# Altium schematic symbol library Timer.SchLib: 66 symbols
Pins are listed as number, name and electrical type; pins without a type are passive.

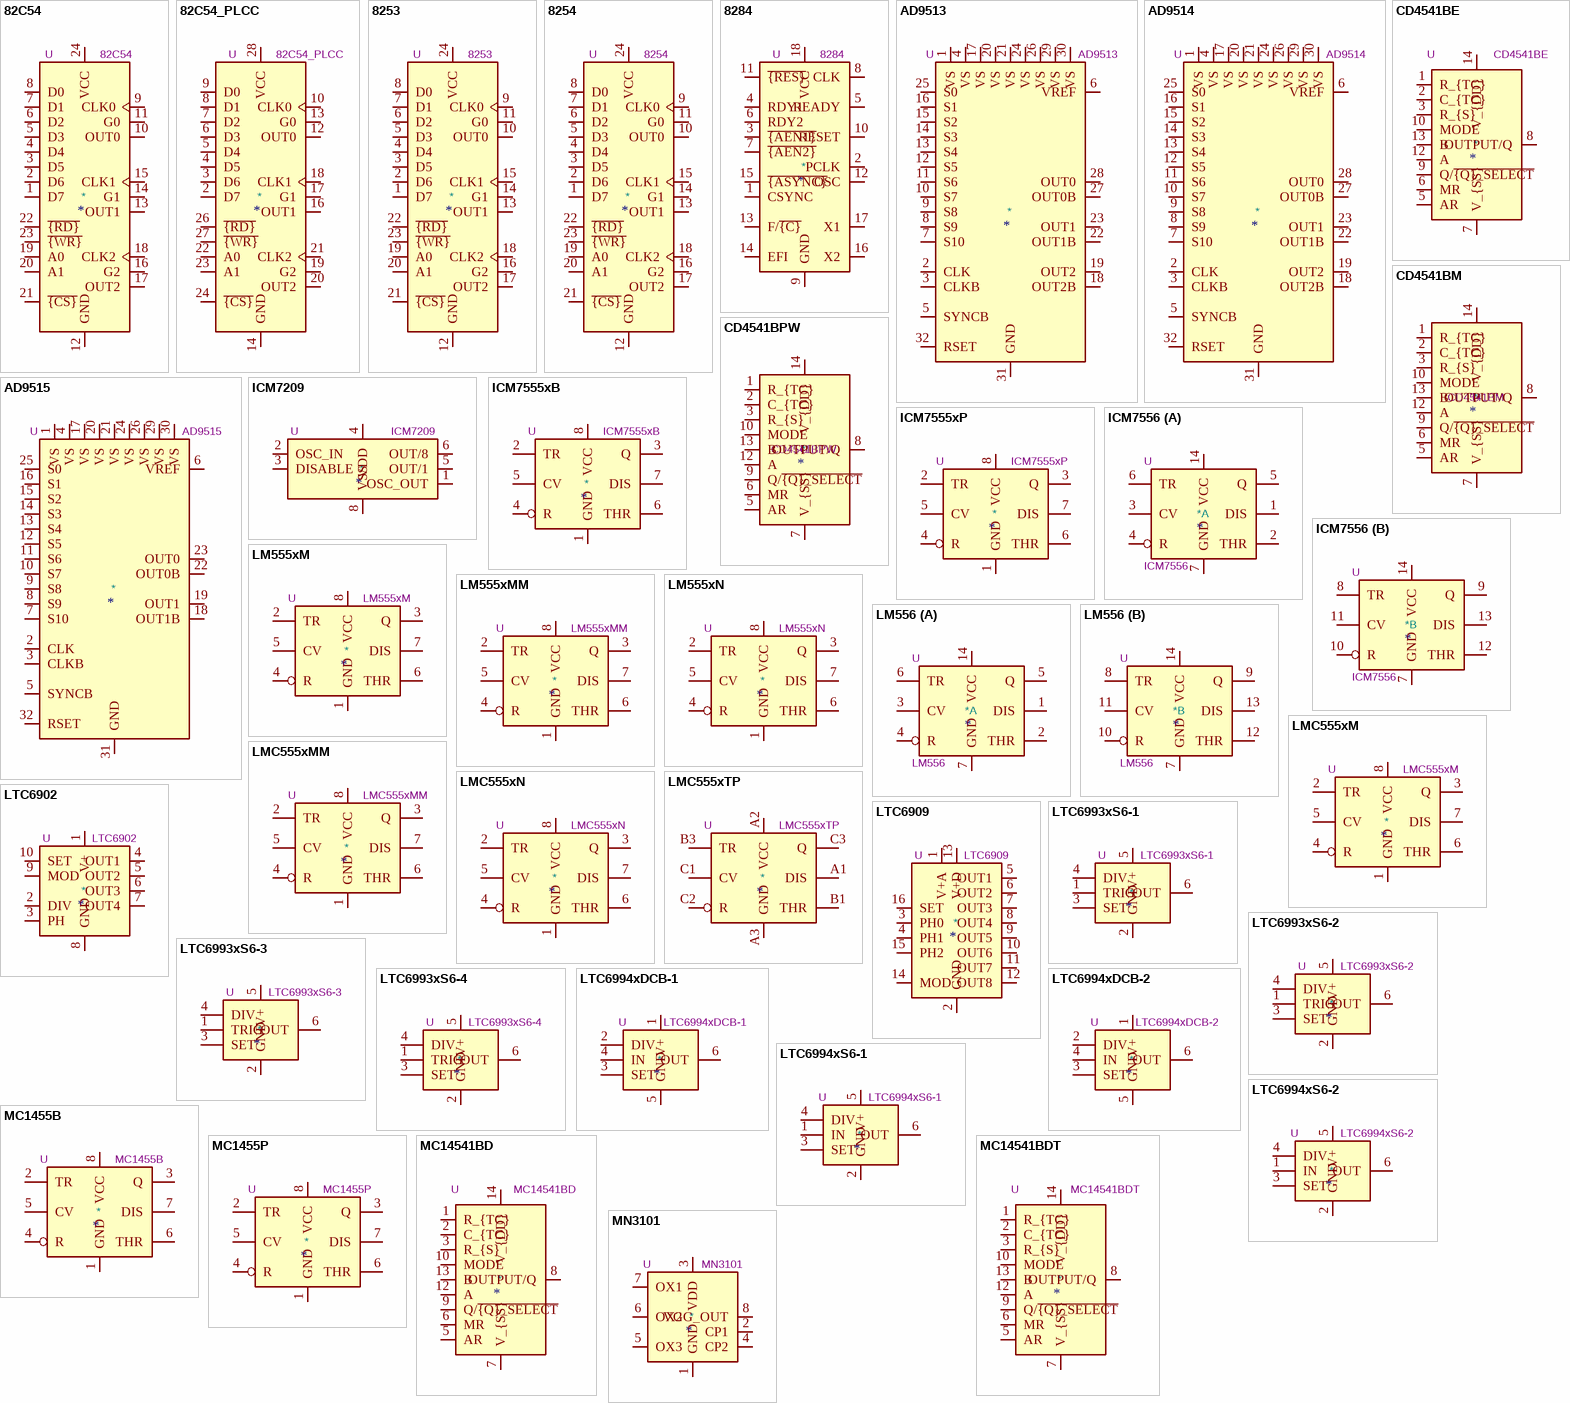
[diagram p0: symbols 82C54 to MN3101]

## 82C54
designator *  value 82C54  Reference: U
ki_keywords: Timer Counter; ki_description: CHMOS Programmable Interval Timer, PDIP-24; ki_fp_filters: DIP*W15.24mm*; Footprint: Package_DIP:DIP-24_W15.24mm; Datasheet: http://download.intel.com/design/archives/periphrl/docs/23124406.pdf
pins: 1 D7, 2 D6, 3 D5, 4 D4, 5 D3, 6 D2, 7 D1, 8 D0, 9 CLK0, 10 OUT0, 11 G0, 12 GND, 13 OUT1, 14 G1, 15 CLK1, 16 G2, 17 OUT2, 18 CLK2, 19 A0, 20 A1, 21 ~{{CS}}, 22 ~{{RD}}, 23 ~{{WR}}, 24 VCC

## 82C54_PLCC
designator *  value 82C54_PLCC  Reference: U
ki_keywords: Timer Counter; ki_description: CHMOS Programmable Interval Timer, PLCC-28; ki_fp_filters: *PLCC?28*; Footprint: Package_LCC:PLCC-28; Datasheet: http://download.intel.com/design/archives/periphrl/docs/23124406.pdf
pins: 1 NC hidden, 2 D7, 3 D6, 4 D5, 5 D4, 6 D3, 7 D2, 8 D1, 9 D0, 10 CLK0, 11 NC hidden, 12 OUT0, 13 G0, 14 GND, 15 NC hidden, 16 OUT1, 17 G1, 18 CLK1, 19 G2, 20 OUT2, 21 CLK2, 22 A0, 23 A1, 24 ~{{CS}}, 25 NC hidden, 26 ~{{RD}}, 27 ~{{WR}}, 28 VCC

## 8253
designator *  value 8253  Reference: U
ki_keywords: Timer Counter; ki_description: Programmable Interval Timer, PDIP-24; ki_fp_filters: DIP*W15.24mm*; Footprint: Package_DIP:DIP-24_W15.24mm; Datasheet: http://www.cpcwiki.eu/imgs/e/e3/8253.pdf
pins: 1 D7, 2 D6, 3 D5, 4 D4, 5 D3, 6 D2, 7 D1, 8 D0, 9 CLK0, 10 OUT0, 11 G0, 12 GND, 13 OUT1, 14 G1, 15 CLK1, 16 G2, 17 OUT2, 18 CLK2, 19 A0, 20 A1, 21 ~{{CS}}, 22 ~{{RD}}, 23 ~{{WR}}, 24 VCC

## 8254
designator *  value 8254  Reference: U
ki_keywords: Timer Counter; ki_description: Programmable Interval Timer, PDIP-24; ki_fp_filters: DIP*W15.24mm*; Footprint: Package_DIP:DIP-24_W15.24mm; Datasheet: http://www.scs.stanford.edu/10wi-cs140/pintos/specs/8254.pdf
pins: 1 D7, 2 D6, 3 D5, 4 D4, 5 D3, 6 D2, 7 D1, 8 D0, 9 CLK0, 10 OUT0, 11 G0, 12 GND, 13 OUT1, 14 G1, 15 CLK1, 16 G2, 17 OUT2, 18 CLK2, 19 A0, 20 A1, 21 ~{{CS}}, 22 ~{{RD}}, 23 ~{{WR}}, 24 VCC

## 8284
designator *  value 8284  Reference: U
ki_keywords: Clock Generator; ki_description: Clock Generator and Driver for i8086/88 Microcontrollers, PDIP-18; ki_fp_filters: DIP*W7.62mm*; Footprint: Package_DIP:DIP-18_W7.62mm; Datasheet: http://www.cpu-galaxy.at/cpu/ram%20rom%20eprom/other_intel_chips/other_intel-Dateien/D8284A_Datasheet.pdf
pins: 1 CSYNC, 2 PCLK, 3 ~{{AEN1}}, 4 RDY1, 5 READY, 6 RDY2, 7 ~{{AEN2}}, 8 CLK, 9 GND, 10 RESET, 11 ~{{RES}}, 12 OSC, 13 F/~{{C}}, 14 EFI, 15 ~{{ASYNC}}, 16 X2, 17 X1, 18 VCC

## AD9513
designator *  value AD9513  Reference: U
ki_keywords: clock distribution LVDS CMOS; ki_description: 800 MHz, 3 Outputs, Clock Distribution IC, Divider, Delay Adjust, LFCSP-32; ki_fp_filters: LFCSP*1EP*5x5mm*P0.5mm*; Footprint: Package_CSP:LFCSP-32-1EP_5x5mm_P0.5mm_EP3.1x3.1mm; Datasheet: https://www.analog.com/media/en/technical-documentation/data-sheets/AD9513.pdf
pins: 1 VS, 2 CLK, 3 CLKB, 4 VS, 5 SYNCB, 6 VREF, 7 S10, 8 S9, 9 S8, 10 S7, 11 S6, 12 S5, 13 S4, 14 S3, 15 S2, 16 S1, 17 VS, 18 OUT2B, 19 OUT2, 20 VS, 21 VS, 22 OUT1B, 23 OUT1, 24 VS, 25 S0, 26 VS, 27 OUT0B, 28 OUT0, 29 VS, 30 VS, 31 GND, 32 RSET, 33 GND hidden

## AD9514
designator *  value AD9514  Reference: U
ki_keywords: clock distribution LVPECL LVDS CMOS; ki_description: 1.6 GHz, 3 Outputs, Clock Distribution IC, Divider, Delay Adjust, LFCSP-32; ki_fp_filters: LFCSP*1EP*5x5mm*P0.5mm*; Footprint: Package_CSP:LFCSP-32-1EP_5x5mm_P0.5mm_EP3.1x3.1mm; Datasheet: https://www.analog.com/media/en/technical-documentation/data-sheets/AD9514.pdf
pins: 1 VS, 2 CLK, 3 CLKB, 4 VS, 5 SYNCB, 6 VREF, 7 S10, 8 S9, 9 S8, 10 S7, 11 S6, 12 S5, 13 S4, 14 S3, 15 S2, 16 S1, 17 VS, 18 OUT2B, 19 OUT2, 20 VS, 21 VS, 22 OUT1B, 23 OUT1, 24 VS, 25 S0, 26 VS, 27 OUT0B, 28 OUT0, 29 VS, 30 VS, 31 GND, 32 RSET, 33 GND hidden

## AD9515
designator *  value AD9515  Reference: U
ki_keywords: clock distribution LVPECL LVDS CMOS; ki_description: 1.6 GHz, 2 Outputs, Clock Distribution IC, Divider, Delay Adjust, LFCSP-32; ki_fp_filters: LFCSP*1EP*5x5mm*P0.5mm*; Footprint: Package_CSP:LFCSP-32-1EP_5x5mm_P0.5mm_EP3.1x3.1mm; Datasheet: https://www.analog.com/media/en/technical-documentation/data-sheets/AD9515.pdf
pins: 1 VS, 2 CLK, 3 CLKB, 4 VS, 5 SYNCB, 6 VREF, 7 S10, 8 S9, 9 S8, 10 S7, 11 S6, 12 S5, 13 S4, 14 S3, 15 S2, 16 S1, 17 VS, 18 OUT1B, 19 OUT1, 20 VS, 21 VS, 22 OUT0B, 23 OUT0, 24 VS, 25 S0, 26 VS, 27 NC hidden, 28 NC hidden, 29 VS, 30 VS, 31 GND, 32 RSET, 33 GND hidden

## CD4541BE
designator *  value CD4541BE  Reference: U
ki_keywords: cmos; ki_description: 20V, Programmable Timer, PDIP-14; ki_fp_filters: DIP*W7.62mm*; Footprint: Package_DIP:DIP-14_W7.62mm; Datasheet: https://www.ti.com/lit/ds/symlink/cd4541b.pdf
pins: 1 R_{TC}, 2 C_{TC}, 3 R_{S}, 4 NC hidden, 5 AR, 6 MR, 7 V_{SS}, 8 OUTPUT/Q, 9 Q/~{{Q}_SELECT}, 10 MODE, 11 NC hidden, 12 A, 13 B, 14 V_{DD}

## CD4541BM
designator *  value CD4541BM  Reference: U
ki_keywords: cmos; ki_description: 20V, Programmable Timer, SOIC-14; ki_fp_filters: SOIC*3.9x8.7mm*P1.27mm*; Footprint: Package_SO:SOIC-14_3.9x8.7mm_P1.27mm; Datasheet: https://www.ti.com/lit/ds/symlink/cd4541b.pdf
pins: 1 R_{TC}, 2 C_{TC}, 3 R_{S}, 4 NC hidden, 5 AR, 6 MR, 7 V_{SS}, 8 OUTPUT/Q, 9 Q/~{{Q}_SELECT}, 10 MODE, 11 NC hidden, 12 A, 13 B, 14 V_{DD}

## CD4541BPW
designator *  value CD4541BPW  Reference: U
ki_keywords: cmos; ki_description: 20V, Programmable Timer, TSSOP-14; ki_fp_filters: TSSOP*4.4x5mm*P0.65mm*; Footprint: Package_SO:TSSOP-14_4.4x5mm_P0.65mm; Datasheet: https://www.ti.com/lit/ds/symlink/cd4541b.pdf
pins: 1 R_{TC}, 2 C_{TC}, 3 R_{S}, 4 NC hidden, 5 AR, 6 MR, 7 V_{SS}, 8 OUTPUT/Q, 9 Q/~{{Q}_SELECT}, 10 MODE, 11 NC hidden, 12 A, 13 B, 14 V_{DD}

## ICM7209
designator *  value ICM7209  Reference: U
ki_keywords: Timebase generator; ki_description: Timebase generator, DIP-8; ki_fp_filters: DIP*W7.62mm*; Footprint: Package_DIP:DIP-8_W7.62mm; Datasheet: http://pdf.datasheetcatalog.com/datasheets/320/500974_DS.pdf
pins: 1 OSC_OUT, 2 OSC_IN, 3 DISABLE, 4 VDD, 5 OUT/1, 6 OUT/8, 8 VSS

## ICM7555xB
designator *  value ICM7555xB  Reference: U
ki_keywords: single timer 555; ki_description: CMOS General Purpose Timer, 555 compatible, SOIC-8; ki_fp_filters: SOIC*3.9x4.9mm*P1.27mm*; Footprint: Package_SO:SOIC-8_3.9x4.9mm_P1.27mm; Datasheet: http://www.intersil.com/content/dam/Intersil/documents/icm7/icm7555-56.pdf
pins: 1 GND, 2 TR, 3 Q, 4 R, 5 CV, 6 THR, 7 DIS, 8 VCC

## ICM7555xP
designator *  value ICM7555xP  Reference: U
ki_keywords: single timer 555; ki_description: CMOS General Purpose Timer, 555 compatible, PDIP-8; ki_fp_filters: DIP*W7.62mm*; Footprint: Package_DIP:DIP-8_W7.62mm; Datasheet: http://www.intersil.com/content/dam/Intersil/documents/icm7/icm7555-56.pdf
pins: 1 GND, 2 TR, 3 Q, 4 R, 5 CV, 6 THR, 7 DIS, 8 VCC

## ICM7556
designator *  value ICM7556  Reference: U
ki_keywords: dual timer 556; ki_description: Dual CMOS General Purpose Timer, DIP-14/SOIC-14; ki_fp_filters: DIP*W7.62mm* TSSOP*5.3x6.2mm*P0.65mm* SOIC*3.9x8.7mm*P1.27mm*; Datasheet: http://www.intersil.com/content/dam/Intersil/documents/icm7/icm7555-56.pdf
part A pins: 1 DIS, 2 THR, 3 CV, 4 R, 5 Q, 6 TR, 7 GND, 14 VCC
part B pins: 7 GND, 8 TR, 9 Q, 10 R, 11 CV, 12 THR, 13 DIS, 14 VCC

## LM555xM
designator *  value LM555xM  Reference: U
ki_keywords: single timer 555; ki_description: Timer, 555 compatible, SOIC-8; ki_fp_filters: SOIC*3.9x4.9mm*P1.27mm*; Footprint: Package_SO:SOIC-8_3.9x4.9mm_P1.27mm; Datasheet: http://www.ti.com/lit/ds/symlink/lm555.pdf
pins: 1 GND, 2 TR, 3 Q, 4 R, 5 CV, 6 THR, 7 DIS, 8 VCC

## LM555xMM
designator *  value LM555xMM  Reference: U
ki_keywords: single timer 555; ki_description: Precision Timers, 555 compatible, VSSOP-8; ki_fp_filters: *VSSOP*3.0x3.0mm*P0.65mm*; Footprint: Package_SO:VSSOP-8_3.0x3.0mm_P0.65mm; Datasheet: http://www.ti.com/lit/ds/symlink/lm555.pdf
pins: 1 GND, 2 TR, 3 Q, 4 R, 5 CV, 6 THR, 7 DIS, 8 VCC

## LM555xN
designator *  value LM555xN  Reference: U
ki_keywords: single timer 555; ki_description: Timer, 555 compatible, PDIP-8; ki_fp_filters: DIP*W7.62mm*; Footprint: Package_DIP:DIP-8_W7.62mm; Datasheet: http://www.ti.com/lit/ds/symlink/lm555.pdf
pins: 1 GND, 2 TR, 3 Q, 4 R, 5 CV, 6 THR, 7 DIS, 8 VCC

## LM556
designator *  value LM556  Reference: U
ki_keywords: dual timer; ki_description: Dual Timer, DIP-14/SOIC-14; ki_fp_filters: DIP*W7.62mm* TSSOP*5.3x6.2mm*P0.65mm* SOIC*3.9x8.7mm*P1.27mm*; Datasheet: http://www.ti.com/lit/ds/symlink/lm556.pdf
part A pins: 1 DIS, 2 THR, 3 CV, 4 R, 5 Q, 6 TR, 7 GND, 14 VCC
part B pins: 7 GND, 8 TR, 9 Q, 10 R, 11 CV, 12 THR, 13 DIS, 14 VCC

## LMC555xM
designator *  value LMC555xM  Reference: U
ki_keywords: single timer 555; ki_description: CMOS Timer, 555 compatible, SOIC-8; ki_fp_filters: SOIC*3.9x4.9mm*P1.27mm*; Footprint: Package_SO:SOIC-8_3.9x4.9mm_P1.27mm; Datasheet: http://www.ti.com/lit/ds/symlink/lmc555.pdf
pins: 1 GND, 2 TR, 3 Q, 4 R, 5 CV, 6 THR, 7 DIS, 8 VCC

## LMC555xMM
designator *  value LMC555xMM  Reference: U
ki_keywords: single timer 555; ki_description: CMOS Timer, 555 compatible, VSSOP-8; ki_fp_filters: *VSSOP*3.0x3.0mm*P0.65mm*; Footprint: Package_SO:VSSOP-8_3.0x3.0mm_P0.65mm; Datasheet: http://www.ti.com/lit/ds/symlink/lmc555.pdf
pins: 1 GND, 2 TR, 3 Q, 4 R, 5 CV, 6 THR, 7 DIS, 8 VCC

## LMC555xN
designator *  value LMC555xN  Reference: U
ki_keywords: single timer 555; ki_description: CMOS Timer, 555 compatible, PDIP-8; ki_fp_filters: DIP*W7.62mm*; Footprint: Package_DIP:DIP-8_W7.62mm; Datasheet: http://www.ti.com/lit/ds/symlink/lmc555.pdf
pins: 1 GND, 2 TR, 3 Q, 4 R, 5 CV, 6 THR, 7 DIS, 8 VCC

## LMC555xTP
designator *  value LMC555xTP  Reference: U
ki_keywords: single timer 555; ki_description: CMOS Timer, DSBGA-8; ki_fp_filters: Texas*DSBGA*P0.5mm*; Footprint: Package_BGA:Texas_DSBGA-8_1.43x1.41mm_Layout3x3_P0.5mm; Datasheet: http://www.ti.com/lit/ds/symlink/lmc555.pdf
pins: A1 DIS, A2 VCC, A3 GND, B1 THR, B3 TR, C1 CV, C2 R, C3 Q

## LTC6902
designator *  value LTC6902  Reference: U
ki_keywords: clock generator dual triple quad signal; ki_description: Multiphase oscillator, spread spectrum frequency modulation, MSOP-10; ki_fp_filters: MSOP*3x3mm*P0.5mm*; Footprint: Package_SO:MSOP-10_3x3mm_P0.5mm; Datasheet: https://www.analog.com/media/en/technical-documentation/data-sheets/6902f.pdf
pins: 1 V+, 2 DIV, 3 PH, 4 OUT1, 5 OUT2, 6 OUT3, 7 OUT4, 8 GND, 9 MOD, 10 SET

## LTC6909
designator *  value LTC6909  Reference: U
ki_keywords: clock generator signal; ki_description: Multiphase oscillator, spread spectrum frequency modulation, MSOP-16; ki_fp_filters: MSOP*3x4mm*P0.5mm*; Footprint: Package_SO:MSOP-16_3x4mm_P0.5mm; Datasheet: https://www.analog.com/media/en/technical-documentation/data-sheets/6909fa.pdf
pins: 1 V+A, 2 GND, 3 PH0, 4 PH1, 5 OUT1, 6 OUT2, 7 OUT3, 8 OUT4, 9 OUT5, 10 OUT6, 11 OUT7, 12 OUT8, 13 V+D, 14 MOD, 15 PH2, 16 SET

## LTC6993xS6-1
designator *  value LTC6993xS6-1  Reference: U
ki_keywords: Timer TimerBlox monostable pulse; ki_description: TimerBlox Monostable Pulse Generator (One Shot), Rising-edge input, non-retriggerable, TSOT-23-6; ki_fp_filters: TSOT*23*; Footprint: Package_TO_SOT_SMD:TSOT-23-6; Datasheet: https://www.analog.com/media/en/technical-documentation/data-sheets/69931234fc.pdf
pins: 1 TRIG, 2 GND, 3 SET, 4 DIV, 5 V+, 6 OUT

## LTC6993xS6-2
designator *  value LTC6993xS6-2  Reference: U
ki_keywords: Timer TimerBlox monostable pulse; ki_description: TimerBlox Monostable Pulse Generator (One Shot), Rising-edge input, retriggerable, TSOT-23-6; ki_fp_filters: TSOT*23*; Footprint: Package_TO_SOT_SMD:TSOT-23-6; Datasheet: https://www.analog.com/media/en/technical-documentation/data-sheets/69931234fc.pdf
pins: 1 TRIG, 2 GND, 3 SET, 4 DIV, 5 V+, 6 OUT

## LTC6993xS6-3
designator *  value LTC6993xS6-3  Reference: U
ki_keywords: Timer TimerBlox monostable pulse; ki_description: TimerBlox Monostable Pulse Generator (One Shot), Falling-edge input, non-retriggerable, TSOT-23-6; ki_fp_filters: TSOT*23*; Footprint: Package_TO_SOT_SMD:TSOT-23-6; Datasheet: https://www.analog.com/media/en/technical-documentation/data-sheets/69931234fc.pdf
pins: 1 TRIG, 2 GND, 3 SET, 4 DIV, 5 V+, 6 OUT

## LTC6993xS6-4
designator *  value LTC6993xS6-4  Reference: U
ki_keywords: Timer TimerBlox monostable pulse; ki_description: TimerBlox Monostable Pulse Generator (One Shot), Falling-edge input, retriggerable, TSOT-23-6; ki_fp_filters: TSOT*23*; Footprint: Package_TO_SOT_SMD:TSOT-23-6; Datasheet: https://www.analog.com/media/en/technical-documentation/data-sheets/69931234fc.pdf
pins: 1 TRIG, 2 GND, 3 SET, 4 DIV, 5 V+, 6 OUT

## LTC6994xDCB-1
designator *  value LTC6994xDCB-1  Reference: U
ki_keywords: TimerBlox delay block noise discriminator; ki_description: TimerBlox Delay Block, Programmable, Noise Discriminator, Rising or Falling Edge, DFN-6; ki_fp_filters: DFN*1EP*3x2mm*P0.5mm*; Footprint: Package_DFN_QFN:DFN-6-1EP_3x2mm_P0.5mm_EP1.65x1.35mm; Datasheet: https://www.analog.com/media/en/technical-documentation/data-sheets/699412fb.pdf
pins: 1 V+, 2 DIV, 3 SET, 4 IN, 5 GND, 6 OUT

## LTC6994xDCB-2
designator *  value LTC6994xDCB-2  Reference: U
ki_keywords: TimerBlox debouncer noise discriminator; ki_description: TimerBlox Debouncer, Programmable, Noise Discriminator, Rising and Falling Edges, DFN-6; ki_fp_filters: DFN*1EP*3x2mm*P0.5mm*; Footprint: Package_DFN_QFN:DFN-6-1EP_3x2mm_P0.5mm_EP1.65x1.35mm; Datasheet: https://www.analog.com/media/en/technical-documentation/data-sheets/699412fb.pdf
pins: 1 V+, 2 DIV, 3 SET, 4 IN, 5 GND, 6 OUT

## LTC6994xS6-1
designator *  value LTC6994xS6-1  Reference: U
ki_keywords: TimerBlox delay block noise discriminator; ki_description: TimerBlox Delay Block, Programmable, Noise Discriminator, Rising or Falling Edge, TSOT-23-6; ki_fp_filters: TSOT*23*; Footprint: Package_TO_SOT_SMD:TSOT-23-6; Datasheet: https://www.analog.com/media/en/technical-documentation/data-sheets/699412fb.pdf
pins: 1 IN, 2 GND, 3 SET, 4 DIV, 5 V+, 6 OUT

## LTC6994xS6-2
designator *  value LTC6994xS6-2  Reference: U
ki_keywords: TimerBlox debouncer noise discriminator; ki_description: TimerBlox Debouncer, Programmable, Noise Discriminator, Rising and Falling Edges, TSOT-23-6; ki_fp_filters: TSOT*23*; Footprint: Package_TO_SOT_SMD:TSOT-23-6; Datasheet: https://www.analog.com/media/en/technical-documentation/data-sheets/699412fb.pdf
pins: 1 IN, 2 GND, 3 SET, 4 DIV, 5 V+, 6 OUT

## MC1455B
designator *  value MC1455B  Reference: U
ki_keywords: single timer 555; ki_description: Timer, 555 compatible, SOIC-8; ki_fp_filters: SOIC*3.9x4.9mm*P1.27mm*; Footprint: Package_SO:SOIC-8_3.9x4.9mm_P1.27mm; Datasheet: https://www.onsemi.com/pub/Collateral/MC1455-D.PDF
pins: 1 GND, 2 TR, 3 Q, 4 R, 5 CV, 6 THR, 7 DIS, 8 VCC

## MC1455P
designator *  value MC1455P  Reference: U
ki_keywords: single timer 555; ki_description: Timer, 555 compatible, PDIP-8; ki_fp_filters: DIP*W7.62mm*; Footprint: Package_DIP:DIP-8_W7.62mm; Datasheet: https://www.onsemi.com/pub/Collateral/MC1455-D.PDF
pins: 1 GND, 2 TR, 3 Q, 4 R, 5 CV, 6 THR, 7 DIS, 8 VCC

## MC14541BD
designator *  value MC14541BD  Reference: U
ki_keywords: cmos; ki_description: 18V, Programmable Timer, SOIC-14; ki_fp_filters: SOIC*3.9x8.7mm*P1.27mm*; Footprint: Package_SO:SOIC-14_3.9x8.7mm_P1.27mm; Datasheet: https://www.onsemi.com/pdf/datasheet/mc14541b-d.pdf
pins: 1 R_{TC}, 2 C_{TC}, 3 R_{S}, 4 NC hidden, 5 AR, 6 MR, 7 V_{SS}, 8 OUTPUT/Q, 9 Q/~{{Q}_SELECT}, 10 MODE, 11 NC hidden, 12 A, 13 B, 14 V_{DD}

## MC14541BDT
designator *  value MC14541BDT  Reference: U
ki_keywords: cmos; ki_description: 18V, Programmable Timer, TSSOP-14; ki_fp_filters: TSSOP*4.4x5mm*P0.65mm*; Footprint: Package_SO:TSSOP-14_4.4x5mm_P0.65mm; Datasheet: https://www.onsemi.com/pdf/datasheet/mc14541b-d.pdf
pins: 1 R_{TC}, 2 C_{TC}, 3 R_{S}, 4 NC hidden, 5 AR, 6 MR, 7 V_{SS}, 8 OUTPUT/Q, 9 Q/~{{Q}_SELECT}, 10 MODE, 11 NC hidden, 12 A, 13 B, 14 V_{DD}

## MN3101
designator *  value MN3101  Reference: U
ki_keywords: Matsushita Panasonic BBD CMOS; ki_description: Clock Generator Driver/Driver for MN3000 Series BBD (bucket brigade device), -8V to -16V, DIP-8; ki_fp_filters: DIP*W7.62mm*; Footprint: Package_DIP:DIP-8_W7.62mm; Datasheet: http://www.experimentalistsanonymous.com/diy/Datasheets/MN3101.pdf
pins: 1 GND, 2 CP1, 3 VDD, 4 CP2, 5 OX3, 6 OX2, 7 OX1, 8 VGG_OUT

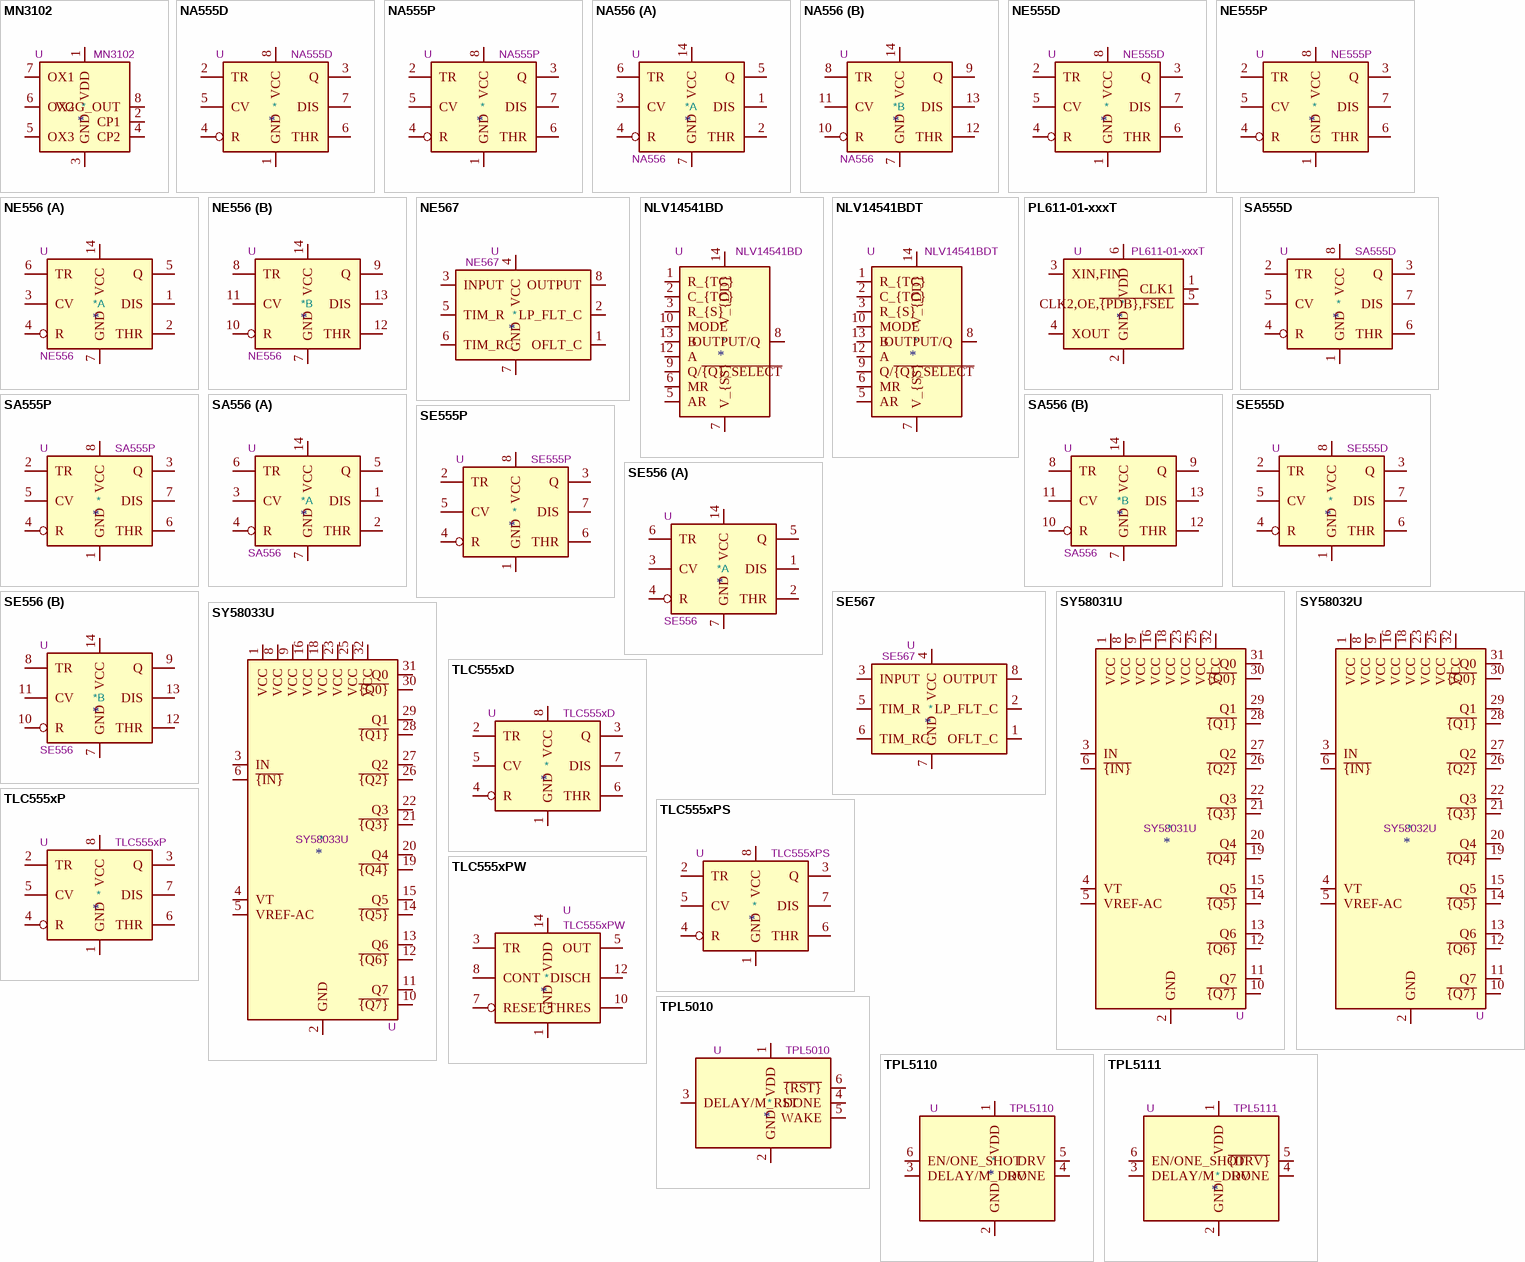
[diagram p1: symbols MN3102 to TPL5111]

## MN3102
designator *  value MN3102  Reference: U
ki_keywords: Matsushita Panasonic BBD CMOS; ki_description: Clock Generator Driver/Driver for MN3000 Series BBD (bucket brigade device), 4V to 10V, DIP-8; ki_fp_filters: DIP*W7.62mm*; Footprint: Package_DIP:DIP-8_W7.62mm; Datasheet: http://www.experimentalistsanonymous.com/diy/Datasheets/MN3102.pdf
pins: 1 VDD, 2 CP1, 3 GND, 4 CP2, 5 OX3, 6 OX2, 7 OX1, 8 VGG_OUT

## NA555D
designator *  value NA555D  Reference: U
ki_keywords: single timer 555; ki_description: Precision Timers, 555 compatible, SOIC-8; ki_fp_filters: SOIC*3.9x4.9mm*P1.27mm*; Footprint: Package_SO:SOIC-8_3.9x4.9mm_P1.27mm; Datasheet: http://www.ti.com/lit/ds/symlink/ne555.pdf
pins: 1 GND, 2 TR, 3 Q, 4 R, 5 CV, 6 THR, 7 DIS, 8 VCC

## NA555P
designator *  value NA555P  Reference: U
ki_keywords: single timer 555; ki_description: Precision Timers, 555 compatible, PDIP-8; ki_fp_filters: DIP*W7.62mm*; Footprint: Package_DIP:DIP-8_W7.62mm; Datasheet: http://www.ti.com/lit/ds/symlink/ne555.pdf
pins: 1 GND, 2 TR, 3 Q, 4 R, 5 CV, 6 THR, 7 DIS, 8 VCC

## NA556
designator *  value NA556  Reference: U
ki_keywords: dual timer; ki_description: Dual Precision Timers, DIP-14/SOIC-14/SSOP-14; ki_fp_filters: DIP*W7.62mm* TSSOP*5.3x6.2mm*P0.65mm* SOIC*3.9x8.7mm*P1.27mm*; Datasheet: http://www.ti.com/lit/ds/symlink/se556.pdf
part A pins: 1 DIS, 2 THR, 3 CV, 4 R, 5 Q, 6 TR, 7 GND, 14 VCC
part B pins: 7 GND, 8 TR, 9 Q, 10 R, 11 CV, 12 THR, 13 DIS, 14 VCC

## NE555D
designator *  value NE555D  Reference: U
ki_keywords: single timer 555; ki_description: Precision Timers, 555 compatible, SOIC-8; ki_fp_filters: SOIC*3.9x4.9mm*P1.27mm*; Footprint: Package_SO:SOIC-8_3.9x4.9mm_P1.27mm; Datasheet: http://www.ti.com/lit/ds/symlink/ne555.pdf
pins: 1 GND, 2 TR, 3 Q, 4 R, 5 CV, 6 THR, 7 DIS, 8 VCC

## NE555P
designator *  value NE555P  Reference: U
ki_keywords: single timer 555; ki_description: Precision Timers, 555 compatible,  PDIP-8; ki_fp_filters: DIP*W7.62mm*; Footprint: Package_DIP:DIP-8_W7.62mm; Datasheet: http://www.ti.com/lit/ds/symlink/ne555.pdf
pins: 1 GND, 2 TR, 3 Q, 4 R, 5 CV, 6 THR, 7 DIS, 8 VCC

## NE556
designator *  value NE556  Reference: U
ki_keywords: dual timer; ki_description: Dual Precision Timers, DIP-14/SOIC-14; ki_fp_filters: DIP*W7.62mm* TSSOP*5.3x6.2mm*P0.65mm* SOIC*3.9x8.7mm*P1.27mm*; Datasheet: http://www.ti.com/lit/ds/symlink/ne556.pdf
part A pins: 1 DIS, 2 THR, 3 CV, 4 R, 5 Q, 6 TR, 7 GND, 14 VCC
part B pins: 7 GND, 8 TR, 9 Q, 10 R, 11 CV, 12 THR, 13 DIS, 14 VCC

## NE567
designator *  value NE567  Reference: U
ki_keywords: tone decoder PLL; ki_description: Tone Decoder/Phase-Locked Loop, DIP-8/SOIC-8; ki_fp_filters: DIP*W7.62mm* SOIC*3.9x4.9mm*P1.27mm*; Datasheet: http://www.ti.com/lit/ds/symlink/lm567.pdf
pins: 1 OFLT_C, 2 LP_FLT_C, 3 INPUT, 4 VCC, 5 TIM_R, 6 TIM_RC, 7 GND, 8 OUTPUT

## NLV14541BD
designator *  value NLV14541BD  Reference: U
ki_keywords: cmos; ki_description: 18V, Programmable Timer, AEC Q100, SOIC-14; ki_fp_filters: SOIC*3.9x8.7mm*P1.27mm*; Footprint: Package_SO:SOIC-14_3.9x8.7mm_P1.27mm; Datasheet: https://www.onsemi.com/pdf/datasheet/mc14541b-d.pdf
pins: 1 R_{TC}, 2 C_{TC}, 3 R_{S}, 4 NC hidden, 5 AR, 6 MR, 7 V_{SS}, 8 OUTPUT/Q, 9 Q/~{{Q}_SELECT}, 10 MODE, 11 NC hidden, 12 A, 13 B, 14 V_{DD}

## NLV14541BDT
designator *  value NLV14541BDT  Reference: U
ki_keywords: cmos; ki_description: 18V, Programmable Timer, AEC Q100, TSSOP-14; ki_fp_filters: TSSOP*4.4x5mm*P0.65mm*; Footprint: Package_SO:TSSOP-14_4.4x5mm_P0.65mm; Datasheet: https://www.onsemi.com/pdf/datasheet/mc14541b-d.pdf
pins: 1 R_{TC}, 2 C_{TC}, 3 R_{S}, 4 NC hidden, 5 AR, 6 MR, 7 V_{SS}, 8 OUTPUT/Q, 9 Q/~{{Q}_SELECT}, 10 MODE, 11 NC hidden, 12 A, 13 B, 14 V_{DD}

## PL611-01-xxxT
designator *  value PL611-01-xxxT  Reference: U
ki_keywords: clock generator dual programmable; ki_description: Programmable Clock, Dual Programmable Clock Outputs, Up To 200MHz, SOT-23-6; ki_fp_filters: SOT?23*; Footprint: Package_TO_SOT_SMD:SOT-23-6; Datasheet: http://ww1.microchip.com/downloads/en/DeviceDoc/PL611-01.pdf
pins: 1 CLK1, 2 GND, 3 XIN,FIN, 4 XOUT, 5 CLK2,OE,~{{PDB},FSEL}, 6 VDD

## SA555D
designator *  value SA555D  Reference: U
ki_keywords: single timer 555; ki_description: Precision Timers, 555 compatible, SOIC-8; ki_fp_filters: SOIC*3.9x4.9mm*P1.27mm*; Footprint: Package_SO:SOIC-8_3.9x4.9mm_P1.27mm; Datasheet: http://www.ti.com/lit/ds/symlink/ne555.pdf
pins: 1 GND, 2 TR, 3 Q, 4 R, 5 CV, 6 THR, 7 DIS, 8 VCC

## SA555P
designator *  value SA555P  Reference: U
ki_keywords: single timer 555; ki_description: Precision Timers, 555 compatible, PDIP-8; ki_fp_filters: DIP*W7.62mm*; Footprint: Package_DIP:DIP-8_W7.62mm; Datasheet: http://www.ti.com/lit/ds/symlink/ne555.pdf
pins: 1 GND, 2 TR, 3 Q, 4 R, 5 CV, 6 THR, 7 DIS, 8 VCC

## SA556
designator *  value SA556  Reference: U
ki_keywords: dual timer; ki_description: Dual Precision Timers, DIP-14/SOIC-14; ki_fp_filters: DIP*W7.62mm* TSSOP*5.3x6.2mm*P0.65mm* SOIC*3.9x8.7mm*P1.27mm*; Datasheet: http://www.ti.com/lit/ds/symlink/ne556.pdf
part A pins: 1 DIS, 2 THR, 3 CV, 4 R, 5 Q, 6 TR, 7 GND, 14 VCC
part B pins: 7 GND, 8 TR, 9 Q, 10 R, 11 CV, 12 THR, 13 DIS, 14 VCC

## SE555D
designator *  value SE555D  Reference: U
ki_keywords: single timer 555; ki_description: Precision Timers, 555 compatible, SOIC-8; ki_fp_filters: SOIC*3.9x4.9mm*P1.27mm*; Footprint: Package_SO:SOIC-8_3.9x4.9mm_P1.27mm; Datasheet: http://www.ti.com/lit/ds/symlink/ne555.pdf
pins: 1 GND, 2 TR, 3 Q, 4 R, 5 CV, 6 THR, 7 DIS, 8 VCC

## SE555P
designator *  value SE555P  Reference: U
ki_keywords: single timer 555; ki_description: Precision Timers, 555 compatible, PDIP-8; ki_fp_filters: DIP*W7.62mm*; Footprint: Package_DIP:DIP-8_W7.62mm; Datasheet: http://www.ti.com/lit/ds/symlink/ne555.pdf
pins: 1 GND, 2 TR, 3 Q, 4 R, 5 CV, 6 THR, 7 DIS, 8 VCC

## SE556
designator *  value SE556  Reference: U
ki_keywords: dual timer; ki_description: Dual Precision Timers, DIP-14/SOIC-14; ki_fp_filters: DIP*W7.62mm* TSSOP*5.3x6.2mm*P0.65mm* SOIC*3.9x8.7mm*P1.27mm*; Datasheet: http://www.ti.com/lit/ds/symlink/ne556.pdf
part A pins: 1 DIS, 2 THR, 3 CV, 4 R, 5 Q, 6 TR, 7 GND, 14 VCC
part B pins: 7 GND, 8 TR, 9 Q, 10 R, 11 CV, 12 THR, 13 DIS, 14 VCC

## SE567
designator *  value SE567  Reference: U
ki_keywords: tone decoder PLL; ki_description: Tone Decoder/Phase-Locked Loop, DIP-8/SOIC-8; ki_fp_filters: DIP*W7.62mm* SOIC*3.9x4.9mm*P1.27mm*; Datasheet: http://www.ti.com/lit/ds/symlink/lm567.pdf
pins: 1 OFLT_C, 2 LP_FLT_C, 3 INPUT, 4 VCC, 5 TIM_R, 6 TIM_RC, 7 GND, 8 OUTPUT

## SY58031U
designator *  value SY58031U  Reference: U
ki_keywords: CML 2.5V/3.3V differential LVPECL LVDS; ki_description: 1:8 CML Fanout Buffer 75fsRMS, QFN-32; ki_fp_filters: QFN*1EP*5x5mm*P0.5mm*; Footprint: Package_DFN_QFN:QFN-32-1EP_5x5mm_P0.5mm_EP3.1x3.1mm_ThermalVias; Datasheet: http://ww1.microchip.com/downloads/en/DeviceDoc/sy58031u.pdf
pins: 1 VCC, 2 GND, 3 IN, 4 VT, 5 VREF-AC, 6 ~{{IN}}, 7 GND hidden, 8 VCC, 9 VCC, 10 ~{{Q7}}, 11 Q7, 12 ~{{Q6}}, 13 Q6, 14 ~{{Q5}}, 15 Q5, 16 VCC, 17 GND hidden, 18 VCC, 19 ~{{Q4}}, 20 Q4, 21 ~{{Q3}}, 22 Q3, 23 VCC, 24 GND hidden, 25 VCC, 26 ~{{Q2}}, 27 Q2, 28 ~{{Q1}}, 29 Q1, 30 ~{{Q0}}, 31 Q0, 32 VCC, 33 GND hidden

## SY58032U
designator *  value SY58032U  Reference: U
ki_keywords: 2.5V/3.3V differential LVPECL LVDS; ki_description: 1:8 LVPECL Fanout Buffer 75fsRMS, QFN-32; ki_fp_filters: QFN*1EP*5x5mm*P0.5mm*; Footprint: Package_DFN_QFN:QFN-32-1EP_5x5mm_P0.5mm_EP3.1x3.1mm_ThermalVias; Datasheet: http://ww1.microchip.com/downloads/en/DeviceDoc/sy58032u.pdf
pins: 1 VCC, 2 GND, 3 IN, 4 VT, 5 VREF-AC, 6 ~{{IN}}, 7 GND hidden, 8 VCC, 9 VCC, 10 ~{{Q7}}, 11 Q7, 12 ~{{Q6}}, 13 Q6, 14 ~{{Q5}}, 15 Q5, 16 VCC, 17 GND hidden, 18 VCC, 19 ~{{Q4}}, 20 Q4, 21 ~{{Q3}}, 22 Q3, 23 VCC, 24 GND hidden, 25 VCC, 26 ~{{Q2}}, 27 Q2, 28 ~{{Q1}}, 29 Q1, 30 ~{{Q0}}, 31 Q0, 32 VCC, 33 GND hidden

## SY58033U
designator *  value SY58033U  Reference: U
ki_keywords: 2.5V/3.3V differential LVPECL LVDS; ki_description: 1:8 400mV LVPECL Fanout Buffer 75fsRMS, QFN-32; ki_fp_filters: QFN*1EP*5x5mm*P0.5mm*; Footprint: Package_DFN_QFN:QFN-32-1EP_5x5mm_P0.5mm_EP3.1x3.1mm_ThermalVias; Datasheet: http://ww1.microchip.com/downloads/en/DeviceDoc/sy58033u.pdf
pins: 1 VCC, 2 GND, 3 IN, 4 VT, 5 VREF-AC, 6 ~{{IN}}, 7 GND hidden, 8 VCC, 9 VCC, 10 ~{{Q7}}, 11 Q7, 12 ~{{Q6}}, 13 Q6, 14 ~{{Q5}}, 15 Q5, 16 VCC, 17 GND hidden, 18 VCC, 19 ~{{Q4}}, 20 Q4, 21 ~{{Q3}}, 22 Q3, 23 VCC, 24 GND hidden, 25 VCC, 26 ~{{Q2}}, 27 Q2, 28 ~{{Q1}}, 29 Q1, 30 ~{{Q0}}, 31 Q0, 32 VCC, 33 GND hidden

## TLC555xD
designator *  value TLC555xD  Reference: U
ki_keywords: single timer 555; ki_description: Single LinCMOS Timer, 555 compatible, SOIC-8; ki_fp_filters: SOIC*3.9x4.9mm*P1.27mm*; Footprint: Package_SO:SOIC-8_3.9x4.9mm_P1.27mm; Datasheet: http://www.ti.com/lit/ds/symlink/tlc555.pdf
pins: 1 GND, 2 TR, 3 Q, 4 R, 5 CV, 6 THR, 7 DIS, 8 VCC

## TLC555xP
designator *  value TLC555xP  Reference: U
ki_keywords: single timer 555; ki_description: Single LinCMOS Timer, 555 compatible, PDIP-8; ki_fp_filters: DIP*W7.62mm*; Footprint: Package_DIP:DIP-8_W7.62mm; Datasheet: http://www.ti.com/lit/ds/symlink/tlc555.pdf
pins: 1 GND, 2 TR, 3 Q, 4 R, 5 CV, 6 THR, 7 DIS, 8 VCC

## TLC555xPS
designator *  value TLC555xPS  Reference: U
ki_keywords: single timer 555; ki_description: Single LinCMOS Timer, 555 compatible, VSSOP-8; ki_fp_filters: *VSSOP*3.0x3.0mm*P0.65mm*; Footprint: Package_SO:VSSOP-8_3.0x3.0mm_P0.65mm; Datasheet: http://www.ti.com/lit/ds/symlink/tlc555.pdf
pins: 1 GND, 2 TR, 3 Q, 4 R, 5 CV, 6 THR, 7 DIS, 8 VCC

## TLC555xPW
designator *  value TLC555xPW  Reference: U
ki_keywords: single timer 555; ki_description: Single LinCMOS Timer, TSSOP-14; ki_fp_filters: TSSOP*4.4x5mm*P0.65mm*; Footprint: Package_SO:TSSOP-14_4.4x5mm_P0.65mm; Datasheet: http://www.ti.com/lit/ds/symlink/tlc555.pdf
pins: 1 GND, 2 NC hidden, 3 TR, 4 NC hidden, 5 OUT, 6 NC hidden, 7 RESET, 8 CONT, 9 NC hidden, 10 THRES, 11 NC hidden, 12 DISCH, 13 NC hidden, 14 VDD

## TPL5010
designator *  value TPL5010  Reference: U
ki_keywords: timer watchdog nano wake done; ki_description: Timer, Nano Power, Watchdog, 35 nA, 100 ms to 7200 s, VDD 1.8V to 5.5V, Iout max 1mA; ki_fp_filters: SOT?23*; Footprint: Package_TO_SOT_SMD:SOT-23-6; Datasheet: http://www.ti.com/lit/ds/symlink/tpl5010.pdf
pins: 1 VDD, 2 GND, 3 DELAY/M_RST, 4 DONE, 5 WAKE, 6 ~{{RST}}

## TPL5110
designator *  value TPL5110  Reference: U
ki_keywords: timer active-low nano wake done; ki_description: Timer, Nano Power, Active-Low, 35 nA, 100 ms to 7200 s, VDD 1.8V to 5.5V, Iout max 1mA, SOT-23-6; ki_fp_filters: SOT?23*; Footprint: Package_TO_SOT_SMD:SOT-23-6; Datasheet: http://www.ti.com/lit/ds/symlink/tpl5110.pdf
pins: 1 VDD, 2 GND, 3 DELAY/M_DRV, 4 DONE, 5 DRV, 6 EN/ONE_SHOT

## TPL5111
designator *  value TPL5111  Reference: U
ki_keywords: timer active-high nano wake done; ki_description: Timer, Nano Power, Active-High, 35 nA, 100 ms to 7200 s, VDD 1.8V to 5.5V, Iout max 1mA, SOT-23-6; ki_fp_filters: SOT?23*; Footprint: Package_TO_SOT_SMD:SOT-23-6; Datasheet: http://www.ti.com/lit/ds/symlink/tpl5111.pdf
pins: 1 VDD, 2 GND, 3 DELAY/M_DRV, 4 DONE, 5 ~{{DRV}}, 6 EN/ONE_SHOT